# EAGLE library part SO8GT-DC (library STEMTera)
Amkor SO8GT-DC 3.8mm body
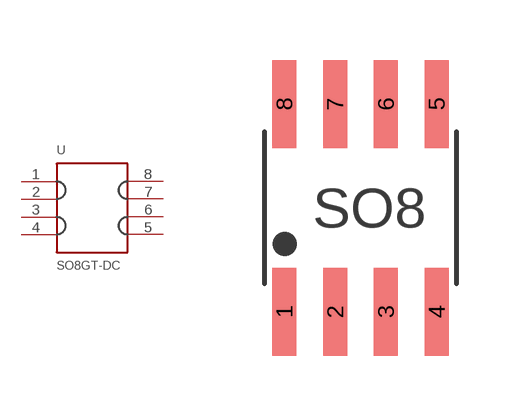
[diagram p8: symbol with the pads of SOIC08_3.8MM; footprint SOIC08_3.8MM]

Designator prefix -

## SO8GT-DC  [SOIC08_3.8MM]
1  1
2  2
3  3
4  4
5  5
6  6
7  7
8  8

## Footprint SOIC08_3.8MM (pad centres in mm)
SOIC8 3.8mm Body
smd 0.6 x 2.2: 1 -1.905,-2.6; 2 -0.635,-2.6; 3 0.635,-2.6; 4 1.905,-2.6; 5 1.905,2.6; 6 0.635,2.6; 7 -0.635,2.6; 8 -1.905,2.6